# EAGLE library part MCP16301 (library omcPwrSupply)
Microchip -MCP16301/H - High-Voltage Input Integrated Switch Step-Down Regulator Up to 96% Typical Efficiency Input Voltage Range: 4.0V to 30V (MCP16301) 4.7V to 36V (MCP16301H) Output Voltage Range: 2.0V to 15V 2% Output Voltage Accuracy Integrated N-Channel Buck Switch: 460mΩ 600mA Output Current 500 kHz Fixed Frequency Adjustable Output Voltage Low Device Shutdown Current Peak Current Mode Control Internal Compensation Stable with Ceramic Capacitors Internal Soft-Start Cycle-by-Cycle Peak Current Limit Undervoltage Lockout (UVLO): 3.5V Overtemperature Protection Available Package: SOT-23-6 Microchip Datasheet <http://ww1.microchip.com/downloads/en/DeviceDoc/20005004D.pdf> Reichelt Datasheet <http://cdn-reichelt.de/documents/datenblatt/A200/DS_MCP16301.pdf>
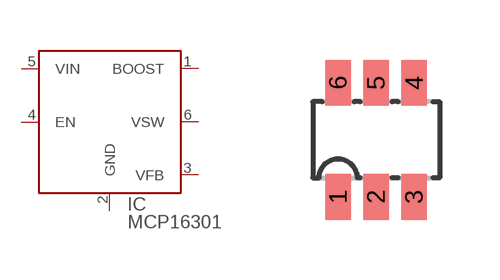
[diagram p6: symbol with the pads of SOT23-6; footprint SOT23-6]

Designator prefix IC

## MCP16301 (DIST#REICHELT#: MCP 16301T-I/CHY; VALUE: MCP16301; VENDOR#: Microchip,MCP16301T), MCP16301H (VALUE: MCP16301H; VENDOR#: Microchip,MCP16301HT)  [SOT23-6]
1  BOOST  pas
2  GND  pwr
3  VFB  pas
4  EN  pas
5  VIN  pwr
6  VSW  out

## Footprint SOT23-6 (pad centres in mm)
SOT23 6-lead Package SOT23-6, SOT-23/6 Technology: SMD Mechanical reference <http://www.vishay.com/docs/72821/72821.pdf> (Vishay)
smd 0.635 x 1.143: 1 -0.953,-1.429; 2 0,-1.429; 3 0.953,-1.429; 4 0.953,1.429; 5 0,1.429; 6 -0.953,1.429